# Altium schematic symbol library ERJ-2RKF4701X.SchLib: 1 symbol
Pins are listed as number, name and electrical type; pins without a type are passive.

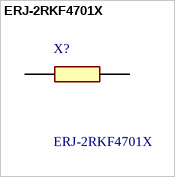
[diagram p0: symbol ERJ-2RKF4701X]

## ERJ-2RKF4701X
designator X?
Res Thick Film 0402 4.7K Ohm 1% 0.1W(1/10W) +/-100ppm/C Pad SMD Automotive T/R; Manufacturer_Name: Panasonic; Geometry.Height: 0.4mm; Mouser Part Number: 667-ERJ-2RKF4701X; Mouser Price/Stock: https://www.mouser.co.uk/ProductDetail/Panasonic/ERJ-2RKF4701X?qs=H7k1u0Mp9JQWpspavPhQZA%3D%3D; Manufacturer_Part_Number: ERJ-2RKF4701X; Datasheet Link: https://industrial.panasonic.com/cdbs/www-data/pdf/RDA0000/AOA0000C86.pdf
footprint ERJ2RKD1004X
pins: 1, 2